# Altium schematic symbol library LM117.SchLib: 1 symbol
Pins are listed as number, name and electrical type; pins without a type are passive.

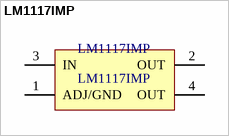
[diagram p0: symbol LM1117IMP]

## LM1117IMP
designator LM1117IMP
footprint LM1117 (6.4x7x1.6mm(长宽高))
pins: 1 ADJ/GND, 2 OUT, 3 IN, 4 OUT